# EAGLE library part VCNL4020_OLD (library GRITSBot)
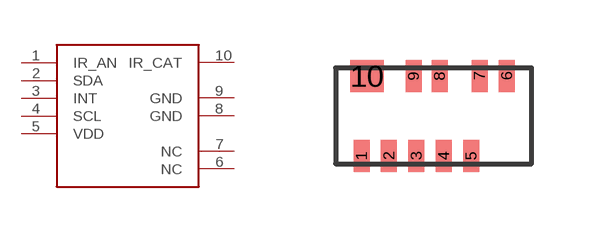
[diagram p23: symbol with the pads of VCNL4020_OLD; footprint VCNL4020_OLD]

Designator prefix -

## VCNL4020_OLD  [VCNL4020_OLD]
1  IR_AN
2  SDA
3  INT
4  SCL
5  VDD
6  NC
7  NC
8  GND
9  GND
10  IR_CAT

## Footprint VCNL4020_OLD (pad centres in mm)
smd 0.4 x 0.8: 1 -1.8,-1; 2 -1.115,-1; 3 -0.43,-1; 4 0.255,-1; 5 0.94,-1; 6 1.83,1; 7 1.15,1; 8 0.15,1; 9 -0.5,1
smd 0.83 x 0.8: 10 -1.665,1